# EAGLE library part 750318704 (library Wurth_Power Magnetics_WE-FLYTI)
WE-FLYTI Flyback Transformers Characteristics Low leakage inductance Multiple package sizes Wide range input voltages Different output voltages available Isolation voltage: up to 3000VAC Lead free and RoHS compliant Operating temp: -40°C to 125°C Applications Industrial and medical power supplies Auxiliary power supplies Home automation Isolated DC/DC power supplies <https://www.we-online.com/components/media/o795300v209%20FAMILY-MID-FLYTI.jpg> Details see: www.we-online.com/en/components/products/WE-FLYTI <www.we-online.com/catalog/WE-FLYTI/?utm_source=eagle_model&utm_medium=description_link&utm_campaign=eisos_eagle> Created by Ella Wu 2024-07-03 2024 (C) Wurth Elektronik
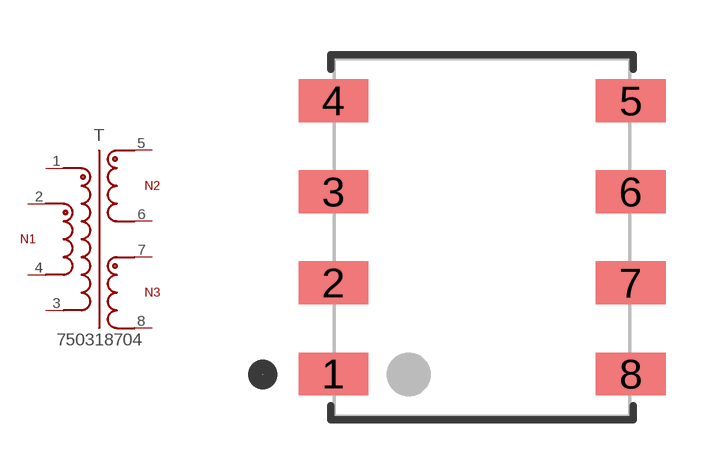
[diagram p7: symbol with the pads of WE-FLYTI_EP7_4436; footprint WE-FLYTI_EP7_4436]

Designator prefix T

## 750318704 (DATASHEET-URL: https://www.we-online.com/redexpert/spec/750318704?ae; IOUT1: 400mA; IOUT2: 400mA; ISAT: 5.7A; L: 7uH; LS: 150nH; MOUNT: SMT; N: 1.25:1.88:1; PART-NUMBER: 750318704; SIZE: EP7; VALUE: 750318704; VIN: 15 - 42 V (DC); VOUT1: 15V; VOUT2: 8V; VT: 500V(AC))  [WE-FLYTI_EP7_4436]
1  1  pas
2  2  pas
3  3  pas
4  4  pas
5  5  pas
6  6  pas
7  7  pas
8  8  pas

## Footprint WE-FLYTI_EP7_4436 (pad centres in mm)
WE-FLYTI Flyback Transformers Size: EP7,SMT,8pins Bobbin: 070-4436
smd 1.91 x 1.17: 1 -4.065,-3.735; 2 -4.065,-1.245; 3 -4.065,1.245; 4 -4.065,3.735; 5 4.065,3.735; 6 4.065,1.245; 7 4.065,-1.245; 8 4.065,-3.735